# EAGLE library part HSMS-285L (library avago)
Surface Mount Microwave Schottky Detector Diodes Unconnected Trio Source: Data sheet <http://www.farnell.com/datasheets/461166.pdf>
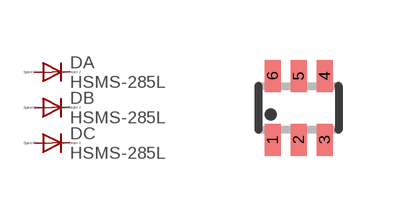
[diagram p5: symbol with the pads of SOT363; footprint SOT363]

Designator prefix D; gates A=D B=D C=D

## HSMS-285L  [SOT363]
1  A:A  pas
2  B:A  pas
3  C:A  pas
4  C:C  pas
5  B:C  pas
6  A:C  pas

## Footprint SOT363 (pad centres in mm)
SOT-363 (SC-706 Lead) Source: Data sheet <http://www.farnell.com/datasheets/461166.pdf>
smd 0.4 x 0.8: 1 -0.65,-0.8; 2 0,-0.8; 3 0.65,-0.8; 4 0.65,0.8; 5 0,0.8; 6 -0.65,0.8